# Altium integrated library UJ2-MIBH-4-SMT-TR-67.IntLib: 1 symbol
Pins are listed as number, name and electrical type; pins without a type are passive.

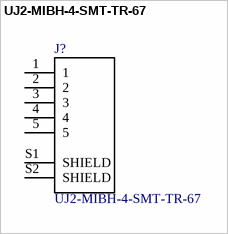
[diagram p0: symbol UJ2-MIBH-4-SMT-TR-67]

## UJ2-MIBH-4-SMT-TR-67
designator J?
Micro B, USB 2.0, 1.8 A, Right Angle, Surface Mount _SMT_, Waterproof, USB Receptacle; MF: CUI Devices; Digi-Key_Purchase_URL: https://www.digikey.com/product-detail/en/cui-devices/UJ2-MIBH-4-SMT-TR-67/102-4970-1-ND/9564435?utm_source=snapeda&utm_medium=aggregator&utm_campaign=symbol; CUI_purchase_URL: https://www.cuidevices.com/product/interconnect/connectors/usb-connectors/uj2-mibh-4-smt-tr-67?utm_source=snapeda.com&utm_medium=referral&utm_campaign=snapedaBOM; Package: None; MP: UJ2-MIBH-4-SMT-TR-67; SnapEDA_Link: https://www.snapeda.com/parts/UJ2-MIBH-4-SMT-TR-67/CUI%20Devices/view-part/?ref=snap; Digi-Key_Part_Number: 102-4970-1-ND; Value: *
footprint *CUI_UJ2-MIBH-4-SMT-TR-67_UJ2-MIBH-4-SMT-TR-67(Primary)
pins: 1, 2, 3, 4, 5, S1 SHIELD, S2 SHIELD